# Altium footprint library LFCSP-8-10.PcbLib: 1 footprints
Each footprint in its own frame and in the unit in brackets; x right, y up, seen from the top. Pads: shape width x height; smd on the part's side, far side on the other; paste and mask are expansions set on the pad; w line width, h text height; cw(c..) or ccw(c..) is an arc to the next point about the centre after c.
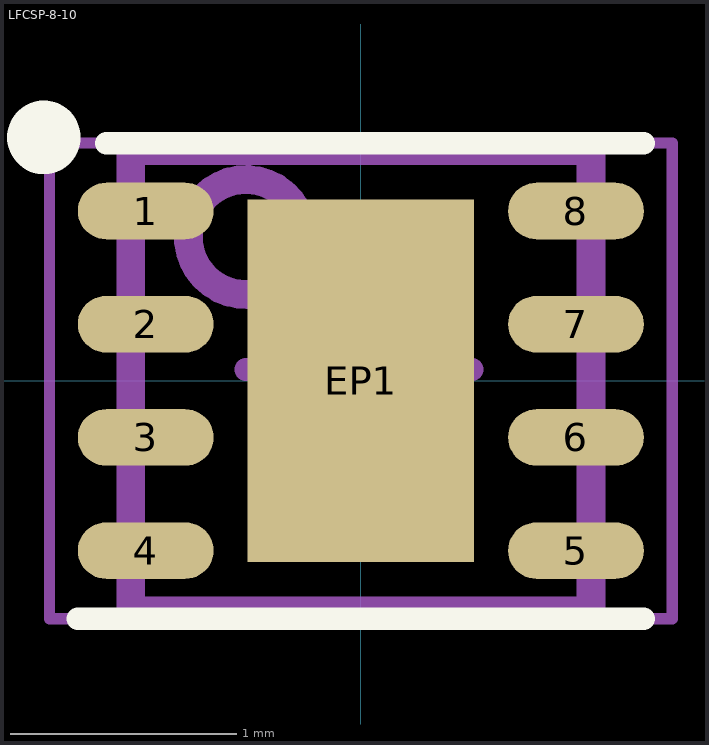
[diagram p0: the footprint, top view; thin cyan lines are the x and y axes]

## LFCSP-8-10 [mm] "LGA, 12-Leads, Body 2,00x2,00mm, Pitch 0,50mm, IPC High Density"
height 1
pads (9):
  rrect100% 0.6x0.25 smd: 1(-0.95,0.75) 2(-0.95,0.25) 3(-0.95,-0.25) 4(-0.95,-0.75) 5(0.95,-0.75) 6(0.95,-0.25) 7(0.95,0.25) 8(0.95,0.75)
  rect 1x1.6 smd: EP1(0,0)
Top Overlay:
  circle w0.254: c-1.4,1.075 r0.035
  lines w0.1: -1.25,-1.05 1.25,-1.05 ; -1.125,1.05 1.25,1.05
Top Assembly:
  circle w0.127: c-0.508,0.635 r0.254
  lines w0.127: -1.016,-1.016 1.016,-1.016 1.016,1.016 -1.016,1.016 -1.016,-1.016
Top Courtyard:
  lines w0.05: -1.375,-1.05 1.375,-1.05 1.375,1.05 -1.375,1.05 -1.375,-1.05
  lines w0.1: -0.509,0.05 0.491,0.05 ; -0.009,-0.45 -0.009,0.55
3D body "User Library-lfcsp-8-2.step": height 0.55, standoff -0.02, extent -1.025,-1 1.015,1